# Altium schematic symbol library 68013.SCHLIB: 1 symbol
Pins are listed as number, name and electrical type; pins without a type are passive.

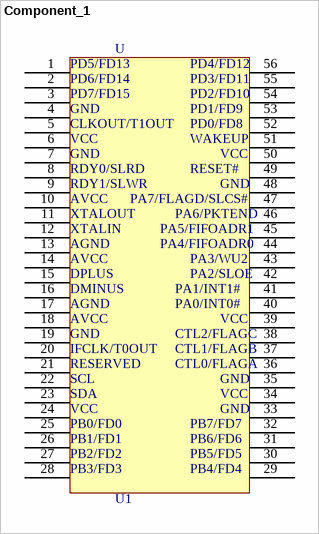
[diagram p0: symbol Component_1]

## Component_1
designator U, comment U1
pins: 1, 2, 3, 4, 5, 6, 7, 8, 9, 10, 11, 12, 13, 14, 15, 16, 17, 18, 19, 20, 21, 22, 23, 24, 25, 26, 27, 28, 29, 30, 31, 32, 33, 34, 35, 36, 37, 38, 39, 40, 41, 42, 43, 44, 45, 46, 47, 48, 49, 50, 51, 52, 53, 54, 55, 56
text: PD5/FD13; PD4/FD12; PD6/FD14; PD3/FD11; PD7/FD15; PD2/FD10; GND; PD1/FD9; CLKOUT/T1OUT; PD0/FD8; VCC; WAKEUP; RDY0/SLRD; RESET#; RDY1/SLWR; AVCC; PA7/FLAGD/SLCS#; XTALOUT; PA6/PKTEND; XTALIN; PA5/FIFOADR1; AGND; PA4/FIFOADR0; PA3/WU2; DPLUS; PA2/SLOE; DMINUS; PA1/INT1#; PA0/INT0#; CTL2/FLAGC; IFCLK/T0OUT; CTL1/FLAGB; RESERVED; CTL0/FLAGA; SCL; SDA; PB0/FD0; PB7/FD7; PB1/FD1; PB6/FD6; PB2/FD2; PB5/FD5; PB3/FD3; PB4/FD4